# Altium footprint library TEP_243-Altium_RLC-Lib.PcbLib: 16 footprints
Each footprint in its own frame and in the unit in brackets; x right, y up, seen from the top. Pads: shape width x height; smd on the part's side, far side on the other; paste and mask are expansions set on the pad; w line width, h text height; cw(c..) or ccw(c..) is an arc to the next point about the centre after c.
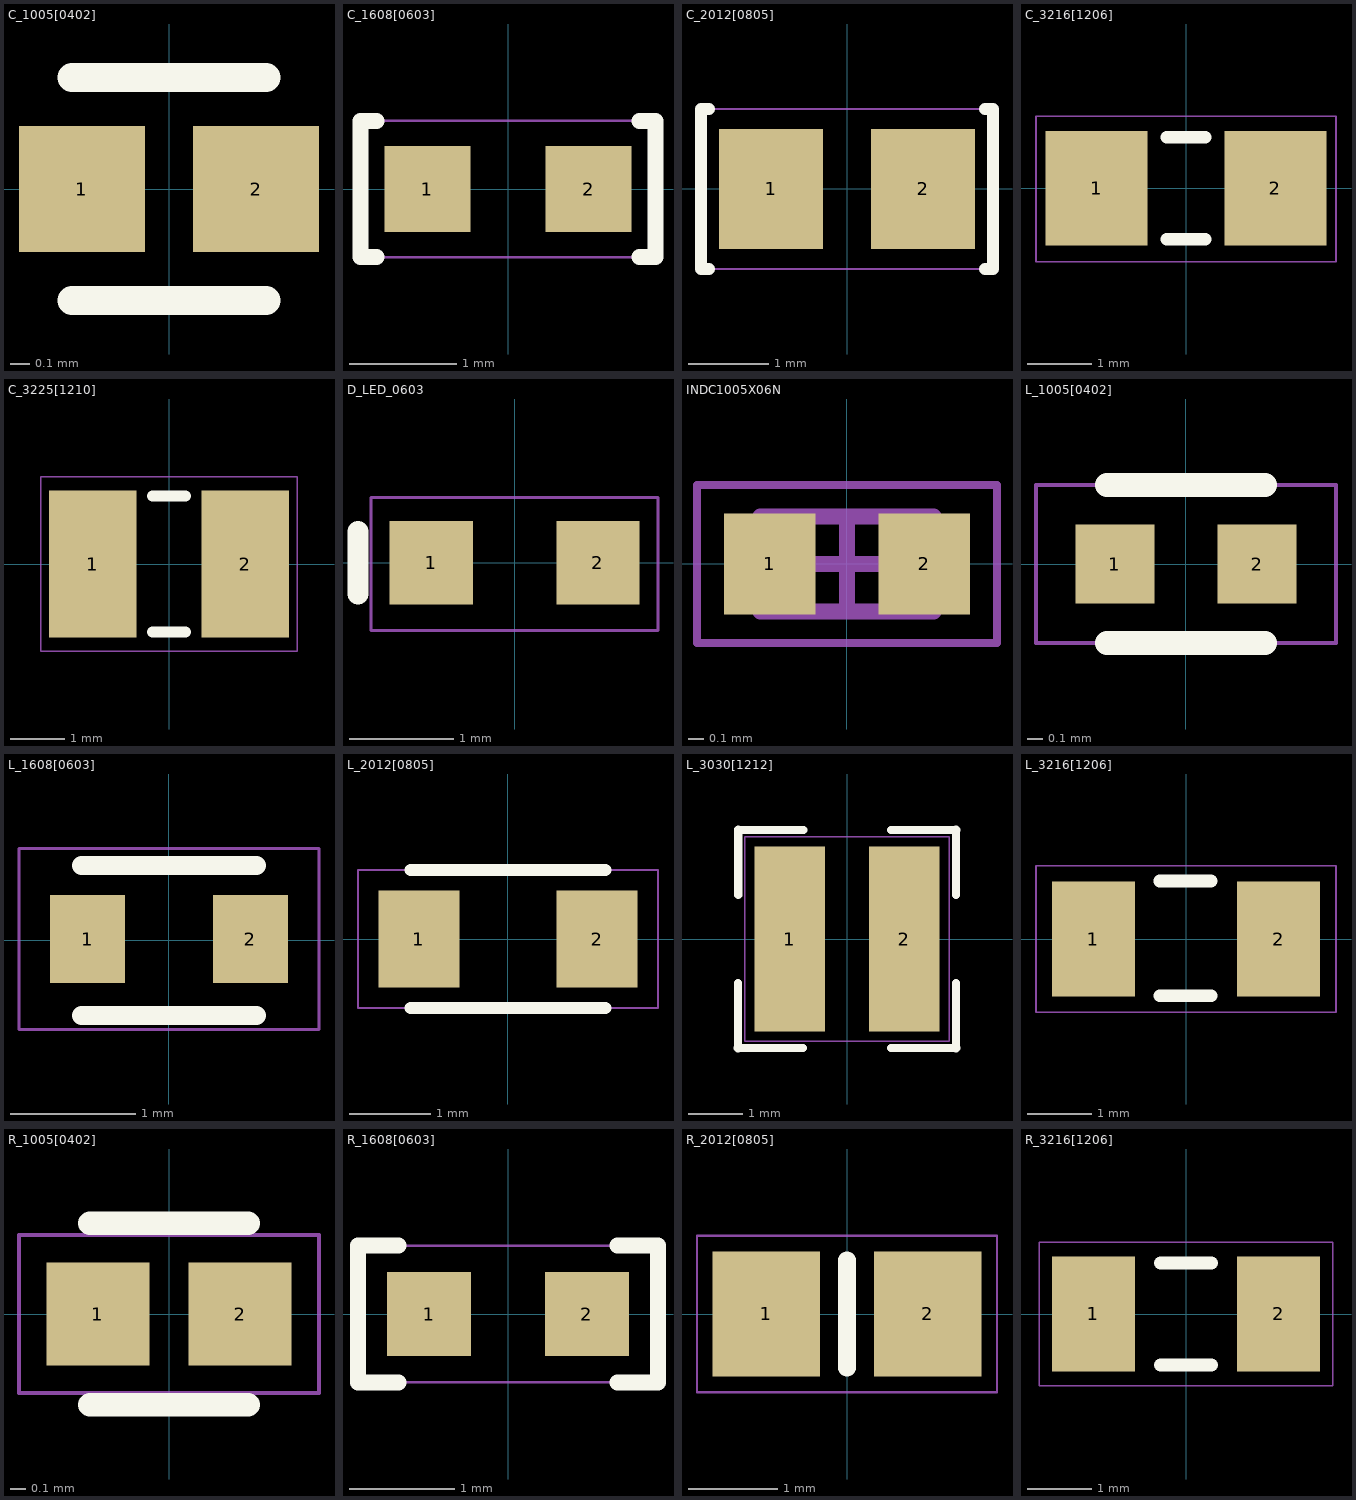
[diagram p0: the footprints below, top view; thin cyan lines are the x and y axes]

## C_1005[0402] [mm] "Capacitor MLCC; Body 1.1 x 0.5 mm (LxW typ)"
height 0.5
pads (2):
  rect 0.65x0.65 smd: 1(-0.45,0) 2(0.45,0)
Top Overlay:
  lines w0.15: -0.5,-0.575 0.5,-0.575 ; -0.5,0.575 0.5,0.575
Top Designator:
  text ".Designator" at -0.855,-0.226 h1
3D body "User Library-0402(1005M) Cap.STEP": height 0.51, standoff 0, extent -0.508,-0.254 0.508,0.254

## C_1608[0603] [mm] "Capacitor MLCC; Body 1.6 x 0.8 mm (LxW typ)"
height 0.65
pads (2):
  rect 0.8x0.8 smd: 1(-0.75,0) 2(0.75,0)
Top Overlay:
  lines w0.15: -1.225,-0.635 -1.375,-0.635 -1.375,0.635 -1.225,0.635 ; 1.225,-0.635 1.375,-0.635 1.375,0.635 1.225,0.635
Top Courtyard:
  lines w0.025: -1.397,-0.635 1.397,-0.635 1.397,0.635 -1.397,0.635 -1.397,-0.635
Top Designator:
  text ".Designator" at -2.489,-0.212 h1.5
3D body "User Library-CapCeramic_Kemet_0603_1608.STEP": height 0.8, standoff 0, extent -0.8,-0.4 0.8,0.4

## C_2012[0805] [mm] "Capacitor MLCC; Body 2.0 x 1.3 mm (LxW typ)"
height 0.8
pads (2):
  rect 1.3x1.5 smd: 1(-0.95,0) 2(0.95,0)
Top Overlay:
  lines w0.15: -1.725,-1 -1.825,-1 -1.825,1 -1.725,1 ; 1.725,-1 1.825,-1 1.825,1 1.725,1
Top Courtyard:
  lines w0.025: -1.875,-1 1.875,-1 1.875,1 -1.875,1 -1.875,-1
Top Designator:
  text ".Designator" at -2.475,-0.206 h1.5
3D body "SW3dPS-0805 SMD Capacitor.STEP": height 0.78, standoff 0, extent -1,-0.625 1,0.625

## C_3216[1206] [mm] "Capacitor MLCC; Body 3.2 x 1.6 mm (LxW typ)"
height 0.8
pads (2):
  rect 1.6x1.8 smd: 1(-1.4,0) 2(1.4,0)
Top Overlay:
  lines w0.2: -0.3,-0.8 0.3,-0.8 ; -0.3,0.8 0.3,0.8
Top Courtyard:
  lines w0.025: -2.35,-1.15 2.35,-1.15 2.35,1.125 -2.35,1.125 -2.35,-1.15
Top Designator:
  text ".Designator" at -2.489,-0.212 h1.5
3D body "SW3dPS-1206 SMD Capacitor.STEP": height 1, standoff 0, extent -1.6,-0.8 1.6,0.8

## C_3225[1210] [mm] "Capacitor MLCC; Body 3.2 x 2.5 mm (LxW typ)"
height 0.8
pads (2):
  rect 1.6x2.7 smd: 1(-1.4,0) 2(1.4,0)
Top Overlay:
  lines w0.2: -0.3,-1.25 0.3,-1.25 ; -0.3,1.25 0.3,1.25
Top Courtyard:
  lines w0.025: -2.35,-1.6 2.35,-1.6 2.35,1.6 -2.35,1.6 -2.35,-1.6
Top Designator:
  text ".Designator" at -2.108,-0.339 h1.5
3D body "User Library-cap1210.STEP": height 0.95, standoff -0.01, extent -2.103,-1.357 2.097,1.343

## D_LED_0603 [mm] "Chip LED, 2-Leads, Body 1.6x0.8mm, IPC Medium Density"
height 0.68
pads (2):
  rect 0.8x0.8 smd: 1(-0.8,0) 2(0.8,0)
Top Overlay:
  lines w0.2: -1.5,-0.3 -1.5,0.3
Top Courtyard:
  lines w0.025: -1.375,-0.65 1.375,-0.65 1.375,0.625 -1.375,0.625 -1.375,-0.65
Top Designator:
  text ".Designator" at -2.489,-0.212 h1.5
3D body "WL-SMCW_0603_LED.stp": height 0.7, standoff 0, extent -0.8,-0.4 0.8,0.4

## INDC1005X06N [mm] "Chip Inductor, 2-Leads, Body 1,00x0,50mm, IPC Medium Density"
height 0.6
pads (2):
  rect 0.58x0.64 smd: 1(-0.49,0) 2(0.49,0)
Top Courtyard:
  lines w0.05: -0.95,-0.5 -0.95,0.5 0.95,0.5 0.95,-0.5 -0.95,-0.5
  lines w0.1: -0.3,0 0.3,0 ; 0,-0.3 0,0.3
Top Assembly:
  lines w0.1: -0.55,-0.3 -0.55,0.3 0.55,0.3 0.55,-0.3 -0.55,-0.3
3D body: height 0.6, standoff 0, extent -0.35,-0.3 0.35,0.3
3D body: height 0.6, standoff 0, extent -0.55,-0.3 -0.35,0.3
3D body: height 0.6, standoff 0, extent 0.35,-0.3 0.55,0.3

## L_1005[0402] [mm] "Chip Inductor, 2-Leads, Body 1,00x0,50mm"
height 0.55
pads (2):
  rect 0.5x0.5 smd: 1(-0.45,0) 2(0.45,0)
Top Overlay:
  lines w0.15: -0.5,-0.5 0.5,-0.5 ; -0.5,0.5 0.5,0.5
Mechanical 1:
  lines w0.025: -0.95,-0.5 -0.95,0.5 0.95,0.5 0.95,-0.5 -0.95,-0.5
3D body "User Library-FB_1005.STEP": height 0.5, standoff 0, extent -0.488,-0.251 0.512,0.249

## L_1608[0603] [mm] "Chip Inductor, 2-Leads, Body 1,60x0,80mm"
height 0.82
pads (2):
  rect 0.6x0.7 smd: 1(-0.65,0.012) 2(0.65,0.012)
Top Overlay:
  lines w0.15: -0.7,-0.6 0.7,-0.6 ; -0.7,0.6 0.7,0.6
Mechanical 1:
  lines w0.025: -1.2,-0.713 1.2,-0.713 1.2,0.737 -1.2,0.737 -1.2,-0.713
3D body "User Library-FB_1608-1.STEP": height 0.8, standoff 0, extent -0.8,-0.4 0.8,0.4

## L_2012[0805] [mm] "Chip Inductor, 2-Leads, Body 2,00x1,20mm"
height 1.05
pads (2):
  rect 1x1.2 smd: 1(-1.1,0) 2(1.1,0)
Top Overlay:
  lines w0.15: -1.2,-0.85 1.2,-0.85 ; -1.2,0.85 1.2,0.85
Mechanical 1:
  lines w0.025: -1.85,-0.85 1.85,-0.85 1.85,0.85 -1.85,0.85 -1.85,-0.85
3D body "User Library-FB_2012-1.STEP": height 0.85, standoff 0, extent -0.988,-0.637 1.012,0.613

## L_3030[1212] [mm] "Inductor, 2-Leads, Body 3,00x3,00mm"
height 1.5
pads (2):
  rect 1.3x3.4 smd: 1(-1.05,0) 2(1.05,0)
Top Overlay:
  lines w0.15: -2.005,-2 -0.805,-2 ; -2,-2.007 -2,-0.807 ; -2,2 -0.8,2 ; -1.993,0.805 -1.993,2.005 ; 0.805,2 2.005,2 ; 0.807,-2 2.007,-2 ; 2,-2.005 2,-0.805 ; 2,0.807 2,2.007
Top Courtyard:
  lines w0.025: -1.875,-1.875 1.875,-1.875 1.875,1.875 -1.875,1.875 -1.875,-1.875
Top Designator:
  text ".Designator" at -2.489,-0.212 h1.5
3D body "LQH3NPN1R0MMEL.STEP": height 1.5, standoff 0, extent -1.5,-1.5 1.5,1.5

## L_3216[1206] [mm] "Chip Inductor, 2-Leads, Body 3,20x1,60mm"
height 1.3
pads (2):
  rect 1.3x1.8 smd: 1(-1.45,0) 2(1.45,0)
Top Overlay:
  lines w0.2: -0.41,-0.89 0.39,-0.89 ; -0.41,0.91 0.39,0.91
Mechanical 15:
  lines w0.025: -2.35,-1.15 2.35,-1.15 2.35,1.15 -2.35,1.15 -2.35,-1.15
3D body "User Library-ind_1206.STEP": height 1.1, standoff 0, extent -1.61,-0.79 1.59,0.81

## R_1005[0402] [mm] "Chip Resistor; Body 1.1 x 0.5 mm (LxW typ)"
height 0.4
pads (2):
  rect 0.65x0.65 smd: 1(-0.45,0) 2(0.45,0)
Top Overlay:
  lines w0.15: -0.5,-0.575 0.5,-0.575 ; -0.5,0.575 0.5,0.575
Top Courtyard:
  lines w0.025: -0.95,-0.5 0.95,-0.5 0.95,0.5 -0.925,0.5 -0.95,0.5 -0.95,-0.5
Top Designator:
  text ".Designator" at -2.489,-0.212 h1.5
3D body "User Library-R0402-1.STEP": height 0.36, standoff 0, extent -0.495,-0.25 0.495,0.258

## R_1608[0603] [mm] "Chip Resistor; Body 1.6 x 0.8 mm (LxW typ)"
height 0.55
pads (2):
  rect 0.8x0.8 smd: 1(-0.75,0) 2(0.75,0)
Top Overlay:
  lines w0.15: -1.041,-0.65 -1.425,-0.65 -1.425,0.65 -1.041,0.65 ; 1.041,-0.65 1.425,-0.65 1.425,0.65 1.041,0.65
Top Courtyard:
  lines w0.025: -1.4,0.65 -1.4,-0.65 1.375,-0.65 1.375,0.65 -1.375,0.65
Top Designator:
  text ".Designator" at -2.489,-0.212 h1.5
3D body "User Library-RESC1608X05N.STEP": height 0.45, standoff 0, extent -0.775,-0.425 0.775,0.425

## R_2012[0805] [mm] "Chip Resistor, Body 2.0x1.3mm, IPC Medium Density"
height 0.65
pads (2):
  rect 1.2x1.4 smd: 1(-0.9,0) 2(0.9,0)
Top Overlay:
  lines w0.2: 0,-0.6 0,0.6
Top Courtyard:
  lines w0.025: -1.675,-0.875 1.675,-0.875 1.675,0.875 -1.675,0.875 -1.675,-0.875
Top Designator:
  text ".Designator" at -2.489,-0.212 h1.5
3D body "User Library-RESC2012X05N.STEP": height 0.45, standoff 0, extent -1,-0.625 1,0.625

## R_3216[1206] [mm] "Chip Resistor, Body 3.2x1.6mm, IPC Medium Density"
height 0.71
pads (2):
  rect 1.3x1.8 smd: 1(-1.45,0) 2(1.45,0)
Top Overlay:
  lines w0.2: -0.4,-0.8 0.4,-0.8 ; -0.4,0.8 0.4,0.8
Top Courtyard:
  lines w0.025: -2.3,-1.125 -2.3,1.125 2.3,1.125 2.3,-1.125 -2.3,-1.125
Top Designator:
  text ".Designator" at -2.489,-0.212 h1.5
3D body "User Library-RESC3216X06N.STEP": height 0.55, standoff 0, extent -1.6,-0.8 1.6,0.8